# Altium schematic symbol library IMTP_Резисторы.SchLib: 2 symbols
Pins are listed as number, name and electrical type; pins without a type are passive.

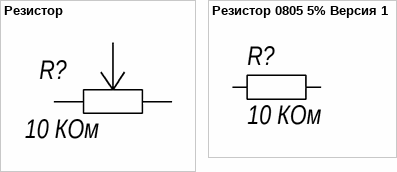
[diagram p0: symbols Резистор to Резистор 0805 5% Версия 1]

## Резистор
designator R?, comment 10 КОм
OutComment: 0805 10 КОм 5%; LatestRevisionDate: 25.03.2010; Name: 10 КОм; PackageDescription: 0805; Publisher: IMTP FEB RAS
pins: 1, 2, 2

## Резистор 0805 5% Версия 1
designator R?, comment 10 КОм
RES 0805 0.125 W 5%; OutComment: 0805 10 КОм 5%; LatestRevisionDate: 25.03.2010; Name: 10 КОм; PackageDescription: 0805; Publisher: IMTP FEB RAS
footprint 0805 (Чип резистор; Размер 2 x 1.3 мм (Д x Ш))
footprint 0603 (Чип резистор; Размер 1.6 x 0.8 мм (Д x Ш))
footprint 0805 (Чип резистор; Размер 2 x 1.3 мм (Д x Ш))
pins: 1, 2